# EAGLE library part LTC2621 (library IC)
16-bit Rail-to-Rail DACs in 10-lead DFN
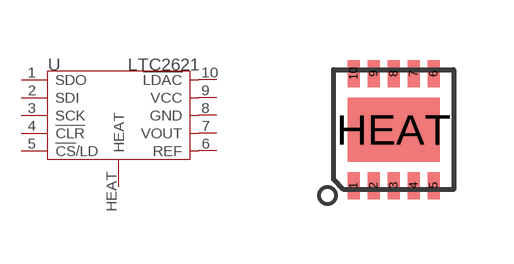
[diagram p183: symbol with the pads of DFN10-W/-HEAT; footprint DFN10-W/-HEAT]

Designator prefix U

## LTC2621  [DFN10-W/-HEAT]
1  SDO
2  SDI
3  SCK
4  !CLR
5  !CS!/LD
6  REF
7  VOUT
8  GND
9  VCC
10  !LDAC
HEAT  HEAT

## Footprint DFN10-W/-HEAT (pad centres in mm)
smd 0.3 x 0.675: 1 -1,-1.4; 2 -0.5,-1.4; 3 0,-1.4; 4 0.5,-1.4; 5 1,-1.4; 6 1,1.4; 7 0.5,1.4; 8 0,1.4; 9 -0.5,1.4; 10 -1,1.4
smd 2.3 x 1.6: HEAT 0,0